# Altium schematic symbol library Transformer.SchLib: 3 symbols
Pins are listed as number, name and electrical type; pins without a type are passive.

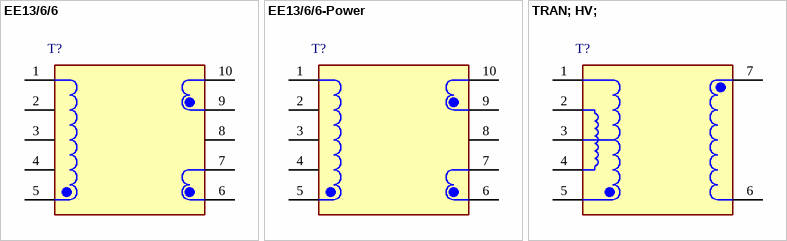
[diagram p0: symbols EE13/6/6 to TRAN; HV;]

## EE13/6/6
designator T?, comment For SMPS Transformer 500VAC Isolation Through Hole  (value not drawn)
OFFLINE TRANSFORMER 6W EE13/7/6; MF: Wurth Electronics Inc; MP: EE13/6/6; SnapEDA_Link: https://www.snapeda.com/parts/EE13/6/6/Wurth+Electronics/view-part/?ref=snap; Package: Package; Value: *; Check_prices: https://www.snapeda.com/parts/EE13/6/6/Wurth+Electronics/view-part/?ref=eda
footprint EE13
pins: 1, 2, 3, 4, 5, 6, 7, 8, 9, 10

## EE13/6/6-Power
designator T?, comment For SMPS Transformer 500VAC Isolation Through Hole  (value not drawn)
OFFLINE TRANSFORMER 6W EE13/7/6; MF: Wurth Electronics Inc; MP: EE13/6/6; SnapEDA_Link: https://www.snapeda.com/parts/EE13/6/6/Wurth+Electronics/view-part/?ref=snap; Package: Package; Value: *; Check_prices: https://www.snapeda.com/parts/EE13/6/6/Wurth+Electronics/view-part/?ref=eda
footprint EE13 - POWER
pins: 1, 2, 3, 4, 5, 6, 7, 8, 9, 10

## TRAN; HV;
designator T?, comment For SMPS Transformer 500VAC Isolation Through Hole  (value not drawn)
OFFLINE TRANSFORMER 6W EE13/7/6; MF: Wurth Electronics Inc; MP: EE13/6/6; SnapEDA_Link: https://www.snapeda.com/parts/EE13/6/6/Wurth+Electronics/view-part/?ref=snap; Package: Package; Value: *; Check_prices: https://www.snapeda.com/parts/EE13/6/6/Wurth+Electronics/view-part/?ref=eda
footprint HV - TRAN
pins: 1, 2, 3, 4, 5, 6, 7